# Altium footprint library QFN.PcbLib: 10 footprints
Each footprint in its own frame and in the unit in brackets; x right, y up, seen from the top. Pads: shape width x height; smd on the part's side, far side on the other; paste and mask are expansions set on the pad; w line width, h text height; cw(c..) or ccw(c..) is an arc to the next point about the centre after c.
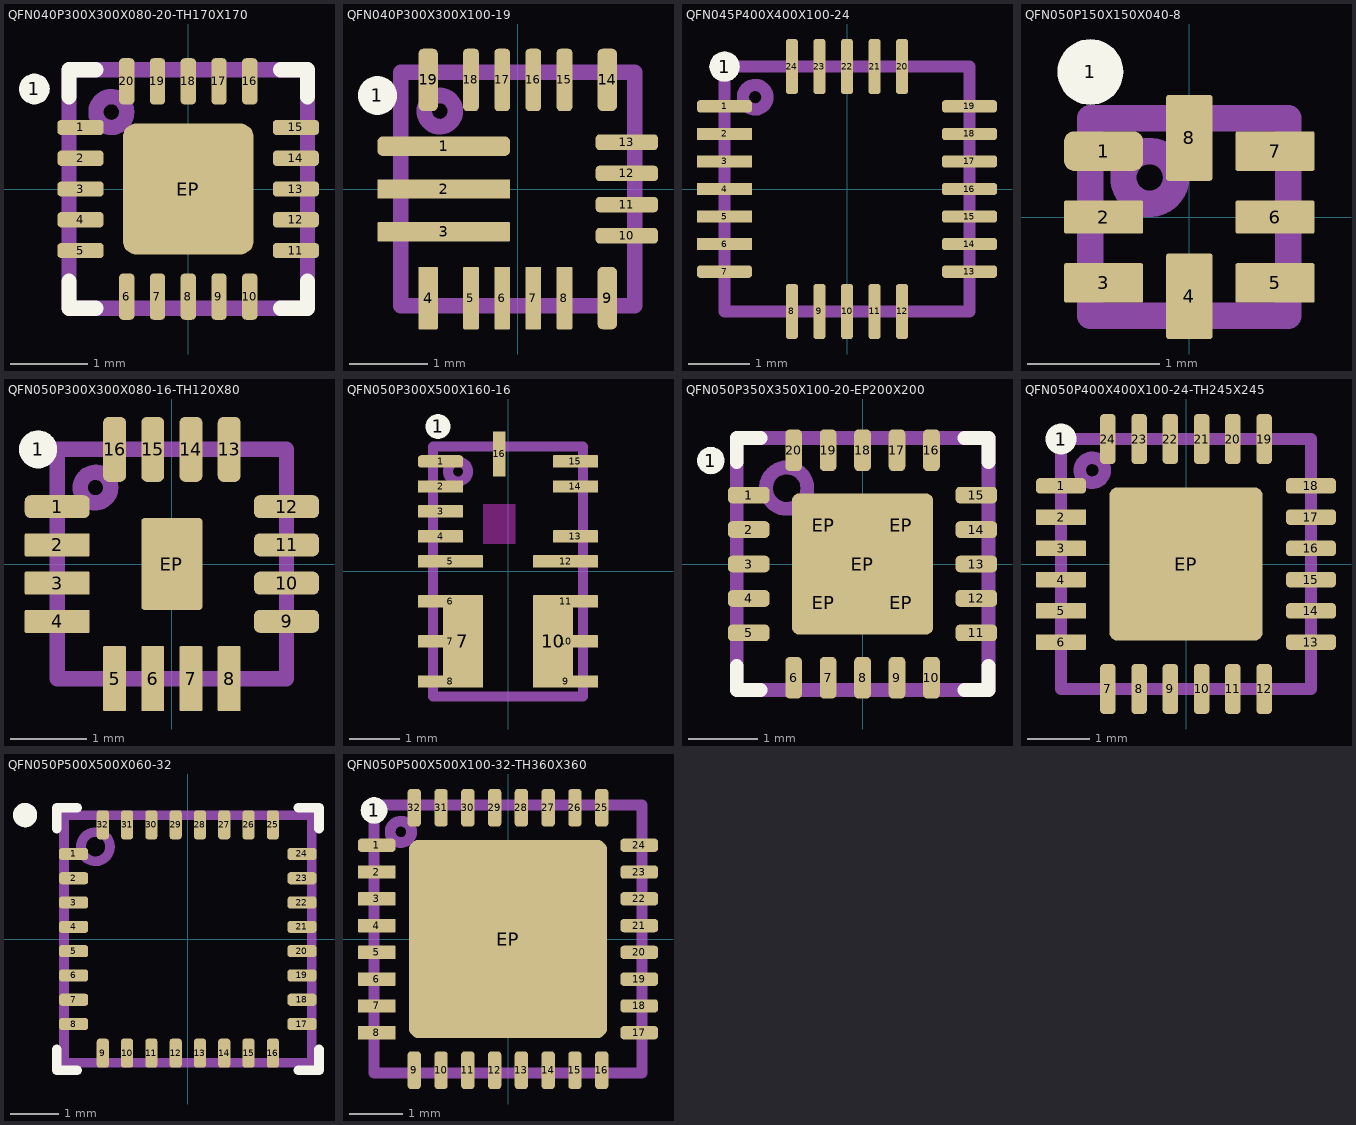
[diagram p0: the footprints below, top view; thin cyan lines are the x and y axes]

## QFN040P300X300X080-20-TH170X170 [mm]
pads (22):
  round 0.4 on Top Overlay: 1(-2,1.3)
  rrect50% 0.6x0.2 smd: 1(-1.4,0.8) 2(-1.4,0.4) 3(-1.4,0) 4(-1.4,-0.4) 5(-1.4,-0.8) 11(1.4,-0.8) 12(1.4,-0.4) 13(1.4,0) 14(1.4,0.4) 15(1.4,0.8)
  rrect50% 0.2x0.6 smd: 6(-0.8,-1.4) 7(-0.4,-1.4) 8(0,-1.4) 9(0.4,-1.4) 10(0.8,-1.4) 16(0.8,1.4) 17(0.4,1.4) 18(0,1.4) 19(-0.4,1.4) 20(-0.8,1.4)
  rrect20% 1.7x1.7 smd: EP(0,0)
Top Overlay:
  lines w0.2: -1.55,-1.2 -1.55,-1.55 -1.2,-1.55 ; -1.55,1.2 -1.55,1.55 -1.2,1.55 ; 1.2,-1.55 1.55,-1.55 1.55,-1.2 ; 1.2,1.55 1.55,1.55 1.55,1.2
Top Assembly:
  circle w0.2: c-1,1 r0.2
  lines w0.2: -1.55,-1.55 1.55,-1.55 1.55,1.55 -1.55,1.55 -1.55,-1.55
3D body: height 0.8, standoff 0.05, extent -1.55,-1.55 1.55,1.55
3D body: height 0.2, standoff 0, extent -0.85,-0.85 0.85,0.85
3D body: height 0.2, standoff 0, extent -1.551,-0.1 -1.051,0.1
3D body: height 0.2, standoff 0, extent -1.551,0.3 -1.051,0.5
3D body: height 0.2, standoff 0, extent -1.551,0.7 -1.051,0.9
3D body: height 0.2, standoff 0, extent -1.551,-0.5 -1.051,-0.3
3D body: height 0.2, standoff 0, extent -1.551,-0.9 -1.051,-0.7
3D body: height 0.2, standoff 0, extent -0.9,-1.551 -0.7,-1.051
3D body: height 0.2, standoff 0, extent -0.5,-1.551 -0.3,-1.051
3D body: height 0.2, standoff 0, extent -0.1,-1.551 0.1,-1.051
3D body: height 0.2, standoff 0, extent 0.3,-1.551 0.5,-1.051
3D body: height 0.2, standoff 0, extent 0.7,-1.551 0.9,-1.051
3D body: height 0.2, standoff 0, extent 1.051,-0.9 1.551,-0.7
3D body: height 0.2, standoff 0, extent 1.051,-0.5 1.551,-0.3
3D body: height 0.2, standoff 0, extent 1.051,-0.1 1.551,0.1
3D body: height 0.2, standoff 0, extent 1.051,0.3 1.551,0.5
3D body: height 0.2, standoff 0, extent 1.051,0.7 1.551,0.9
3D body: height 0.2, standoff 0, extent 0.7,1.051 0.9,1.551
3D body: height 0.2, standoff 0, extent 0.3,1.051 0.5,1.551
3D body: height 0.2, standoff 0, extent -0.1,1.051 0.1,1.551
3D body: height 0.2, standoff 0, extent -0.5,1.051 -0.3,1.551
3D body: height 0.2, standoff 0, extent -0.9,1.051 -0.7,1.551
3D body: height 0.81, standoff 0.8, extent -1.288,0.705 -0.688,1.305

## QFN040P300X300X100-19 [mm] "MP2659"
pads (20):
  round 0.5 on Top Overlay: 1(-1.8,1.2)
  rrect50% 1.7x0.25 smd mask+0.038: 1(-0.95,0.55)
  rrect10% 1.7x0.25 smd mask+0.038: 2(-0.95,0) 3(-0.95,-0.55)
  rrect10% 0.25x0.8 smd mask+0.038: 4(-1.15,-1.4)
  rrect10% 0.2x0.8 smd mask+0.038: 5(-0.6,-1.4) 6(-0.2,-1.4) 7(0.2,-1.4) 8(0.6,-1.4)
  rrect50% 0.25x0.8 smd mask+0.038: 9(1.15,-1.4) 14(1.15,1.4) 19(-1.15,1.4)
  rrect50% 0.8x0.2 smd mask+0.038: 10(1.4,-0.6) 11(1.4,-0.2) 12(1.4,0.2) 13(1.4,0.6)
  rrect50% 0.2x0.8 smd mask+0.038: 15(0.6,1.4) 16(0.2,1.4) 17(-0.2,1.4) 18(-0.6,1.4)
Top Assembly:
  circle w0.2: c-1,1 r0.2
  lines w0.2: -1.5,-1.5 -1.5,1.5 1.5,1.5 1.5,-1.5 -1.5,-1.5
3D body "QFN040P300X300X100-19.stp": height 1.01, standoff 0, extent -1.51,-1.51 1.51,1.51

## QFN045P400X400X100-24 [mm]
pads (25):
  rrect50% 0.9x0.2 smd mask+0: 1(-2,1.35) 7(-2,-1.35) 13(2,-1.35) 14(2,-0.9) 15(2,-0.45) 16(2,0) 17(2,0.45) 18(2,0.9) 19(2,1.35)
  round 0.5 on Top Overlay: 1(-2,2)
  rrect10% 0.9x0.2 smd mask+0: 2(-2,0.9) 3(-2,0.45) 4(-2,0) 5(-2,-0.45) 6(-2,-0.9)
  rrect50% 0.2x0.9 smd mask+0: 8(-0.9,-2) 9(-0.45,-2) 10(0,-2) 11(0.45,-2) 12(0.9,-2) 20(0.9,2) 21(0.45,2) 22(0,2) 23(-0.45,2) 24(-0.9,2)
Top Assembly:
  circle w0.2: c-1.5,1.5 r0.2
  lines w0.2: -2,-2 2,-2 2,2 -2,2 -2,-2
3D body "QFN045P400X400X100-24.stp": height 1.01, standoff 0, extent -2.005,-2.005 2.005,2.005

## QFN050P150X150X040-8 [mm] "JEDEC MO-288 X2ECD TI Package RUG"
pads (9):
  round 0.5 on Top Overlay: 1(-0.75,1.1)
  rrect50% 0.6x0.3 smd mask+0.038: 1(-0.65,0.5)
  rrect10% 0.6x0.25 smd mask+0.038: 2(-0.65,0) 6(0.65,0)
  rrect10% 0.6x0.3 smd mask+0.038: 3(-0.65,-0.5) 5(0.65,-0.5) 7(0.65,0.5)
  rrect10% 0.35x0.65 smd mask+0.038: 4(0,-0.6) 8(0,0.6)
Top Assembly:
  circle w0.2: c-0.3,0.3 r0.2
  lines w0.2: -0.75,-0.75 -0.75,0.75 0.75,0.75 0.75,-0.75 -0.75,-0.75
3D body "QFN050P150X150X040-8-RUG.stp": height 0.41, standoff 0, extent -0.76,-0.76 0.76,0.76

## QFN050P300X300X080-16-TH120X80 [mm]
pads (18):
  round 0.5 on Top Overlay: 1(-1.75,1.5)
  rrect50% 0.85x0.3 smd mask+0.038: 1(-1.5,0.75) 9(1.5,-0.75) 10(1.5,-0.25) 11(1.5,0.25) 12(1.5,0.75)
  rrect10% 0.85x0.3 smd mask+0.038: 2(-1.5,0.25) 3(-1.5,-0.25) 4(-1.5,-0.75)
  rrect10% 0.3x0.85 smd mask+0.038: 5(-0.75,-1.5) 6(-0.25,-1.5) 7(0.25,-1.5) 8(0.75,-1.5)
  rrect50% 0.3x0.85 smd mask+0.038: 13(0.75,1.5) 14(0.25,1.5) 15(-0.25,1.5) 16(-0.75,1.5)
  rrect10% 0.8x1.2 smd mask+0.038: EP(0,0)
Top Assembly:
  circle w0.2: c-1,1 r0.2
  lines w0.2: -1.5,-1.5 1.5,-1.5 1.5,1.5 -1.5,1.5 -1.5,-1.5
3D body "QFN050P300X300X080-16-TH120X80.stp": height 0.81, standoff 0, extent -1.505,-1.505 1.505,1.505

## QFN050P300X500X160-16 [mm] "Recom RPX-1.0-R"
pads (19):
  round 0.5 on Top Overlay: 1(-1.4,2.9)
  rrect50% 0.9x0.25 smd mask+0.038: 1(-1.35,2.2)
  rrect10% 0.9x0.25 smd mask+0.038: 2(-1.35,1.7) 3(-1.35,1.2) 4(-1.35,0.7) 13(1.35,0.7) 14(1.35,1.7) 15(1.35,2.2)
  rrect10% 1.3x0.25 smd mask+0.038: 5(-1.15,0.2) 6(-1.15,-0.6) 7(-1.15,-1.4) 8(-1.15,-2.2) 9(1.15,-2.2) 10(1.15,-1.4) 11(1.15,-0.6) 12(1.15,0.2)
  rrect10% 0.8x1.85 smd mask+0.038: 7(-0.9,-1.4) 10(0.9,-1.4)
  rrect10% 0.25x0.9 smd mask+0.038: 16(-0.175,2.35)
Top Layer keep-out:
  rectangle: -0.5,0.55 0.15,1.35
Top Assembly:
  circle w0.2: c-1,2 r0.2
  lines w0.2: -1.5,-2.5 1.5,-2.5 1.5,2.5 -1.5,2.5 -1.5,-2.5
3D body "QFN050P300X500X160-16.stp": height 1.6, standoff 0, extent -1.505,-2.5 1.505,2.505

## QFN050P350X350X100-20-EP200X200 [mm]
pads (26):
  round 0.4 on Top Overlay: 1(-2.2,1.5)
  rrect50% 0.6x0.24 smd: 1(-1.65,1) 2(-1.65,0.5) 3(-1.65,0) 4(-1.65,-0.5) 5(-1.65,-1) 11(1.65,-1) 12(1.65,-0.5) 13(1.65,0) 14(1.65,0.5) 15(1.65,1)
  rrect50% 0.24x0.6 smd: 6(-1,-1.65) 7(-0.5,-1.65) 8(0,-1.65) 9(0.5,-1.65) 10(1,-1.65) 16(1,1.65) 17(0.5,1.65) 18(0,1.65) 19(-0.5,1.65) 20(-1,1.65)
  rrect20% 0.92x0.92 on Top Paste: EP(-0.56,-0.56) EP(-0.56,0.56) EP(0.56,-0.56) EP(0.56,0.56)
  rrect10% 2.05x2.05 smd paste-2539.97: EP(0,0)
Top Overlay:
  lines w0.2: -1.825,-1.475 -1.825,-1.825 -1.475,-1.825 ; -1.825,1.475 -1.825,1.825 -1.475,1.825 ; 1.475,-1.825 1.825,-1.825 1.825,-1.475 ; 1.475,1.825 1.825,1.825 1.825,1.475
Top Assembly:
  circle w0.2: c-1.1,1.1 r0.3
  lines w0.2: -1.825,-1.825 -1.825,1.825 1.825,1.825 1.825,-1.825 -1.825,-1.825
3D body: height 1, standoff 0.05, extent -1.825,-1.825 1.825,1.825
3D body: height 0.2, standoff 0, extent -1.826,-0.12 -1.326,0.12
3D body: height 0.2, standoff 0, extent -1.826,0.38 -1.326,0.62
3D body: height 0.2, standoff 0, extent -1.826,0.88 -1.326,1.12
3D body: height 0.2, standoff 0, extent -1.826,-0.62 -1.326,-0.38
3D body: height 0.2, standoff 0, extent -1.826,-1.12 -1.326,-0.88
3D body: height 0.2, standoff 0, extent -0.12,-1.826 0.12,-1.326
3D body: height 0.2, standoff 0, extent -0.62,-1.826 -0.38,-1.326
3D body: height 0.2, standoff 0, extent -1.12,-1.826 -0.88,-1.326
3D body: height 0.2, standoff 0, extent 0.38,-1.826 0.62,-1.326
3D body: height 0.2, standoff 0, extent 0.88,-1.826 1.12,-1.326
3D body: height 0.2, standoff 0, extent 1.326,-0.12 1.826,0.12
3D body: height 0.2, standoff 0, extent 1.326,-0.62 1.826,-0.38
3D body: height 0.2, standoff 0, extent 1.326,-1.12 1.826,-0.88
3D body: height 0.2, standoff 0, extent 1.326,0.38 1.826,0.62
3D body: height 0.2, standoff 0, extent 1.326,0.88 1.826,1.12
3D body: height 0.2, standoff 0, extent -0.12,1.326 0.12,1.826
3D body: height 0.2, standoff 0, extent 0.38,1.326 0.62,1.826
3D body: height 0.2, standoff 0, extent 0.88,1.326 1.12,1.826
3D body: height 0.2, standoff 0, extent -0.62,1.326 -0.38,1.826
3D body: height 0.2, standoff 0, extent -1.12,1.326 -0.88,1.826
3D body: height 0.2, standoff 0, extent -1.025,-1.025 1.025,1.025
3D body: height 1.01, standoff 1, extent -1.5,0.9 -0.9,1.5

## QFN050P400X400X100-24-TH245X245 [mm]
pads (26):
  rrect50% 0.8x0.25 smd mask+0.038: 1(-2,1.25) 13(2,-1.25) 14(2,-0.75) 15(2,-0.25) 16(2,0.25) 17(2,0.75) 18(2,1.25)
  round 0.5 on Top Overlay: 1(-2,2)
  rrect10% 0.8x0.25 smd mask+0.038: 2(-2,0.75) 3(-2,0.25) 4(-2,-0.25) 5(-2,-0.75) 6(-2,-1.25)
  rrect50% 0.25x0.8 smd mask+0.038: 7(-1.25,-2) 8(-0.75,-2) 9(-0.25,-2) 10(0.25,-2) 11(0.75,-2) 12(1.25,-2) 19(1.25,2) 20(0.75,2) 21(0.25,2) 22(-0.25,2) 23(-0.75,2) 24(-1.25,2)
  rrect10% 2.45x2.45 smd mask+0.038: EP(0,0)
Top Assembly:
  circle w0.2: c-1.5,1.5 r0.2
  lines w0.2: -2,-2 -2,2 2,2 2,-2 -2,-2
3D body "QFN050P400X400X100-24-TH245X245.stp": height 0.81, standoff 0, extent -2.01,-2.01 2.01,2.01

## QFN050P500X500X060-32 [mm] "QFN, 32-Leads, Body 5.00x5.00mm, Pitch 0.50mm, IPC Medium Density"
height 0.6
pads (32):
  rrect50% 0.6x0.25 smd: 1(-2.35,1.75) 2(-2.35,1.25) 3(-2.35,0.75) 4(-2.35,0.25) 5(-2.35,-0.25) 6(-2.35,-0.75) 7(-2.35,-1.25) 8(-2.35,-1.75) 17(2.35,-1.75) 18(2.35,-1.25) 19(2.35,-0.75) 20(2.35,-0.25) 21(2.35,0.25) 22(2.35,0.75) 23(2.35,1.25) 24(2.35,1.75)
  rrect50% 0.25x0.6 smd: 9(-1.75,-2.35) 10(-1.25,-2.35) 11(-0.75,-2.35) 12(-0.25,-2.35) 13(0.25,-2.35) 14(0.75,-2.35) 15(1.25,-2.35) 16(1.75,-2.35) 25(1.75,2.35) 26(1.25,2.35) 27(0.75,2.35) 28(0.25,2.35) 29(-0.25,2.35) 30(-0.75,2.35) 31(-1.25,2.35) 32(-1.75,2.35)
Top Overlay:
  circle w0.25: c-3.35,2.55 r0.125
  lines w0.2: -2.7,-2.275 -2.7,-2.7 -2.275,-2.7 ; -2.7,2.275 -2.7,2.7 -2.275,2.7 ; 2.275,-2.7 2.7,-2.7 2.7,-2.275 ; 2.275,2.7 2.7,2.7 2.7,2.275
Top Assembly:
  circle w0.2: c-1.9,1.9 r0.3
  lines w0.2: -2.55,-2.55 -2.55,2.55 2.55,2.55 2.55,-2.55 -2.55,-2.55
3D body: height 0.15, standoff 0, extent -1.875,2.31 -1.625,2.56
3D body: height 0.15, standoff 0, extent -1.375,2.31 -1.125,2.56
3D body: height 0.15, standoff 0, extent -0.875,2.31 -0.625,2.56
3D body: height 0.15, standoff 0, extent -0.375,2.31 -0.125,2.56
3D body: height 0.15, standoff 0, extent 0.125,2.31 0.375,2.56
3D body: height 0.15, standoff 0, extent 0.625,2.31 0.875,2.56
3D body: height 0.15, standoff 0, extent 1.125,2.31 1.375,2.56
3D body: height 0.15, standoff 0, extent 1.625,2.31 1.875,2.56
3D body: height 0.15, standoff 0, extent 2.31,1.625 2.56,1.875
3D body: height 0.15, standoff 0, extent 2.31,1.125 2.56,1.375
3D body: height 0.15, standoff 0, extent 2.31,0.625 2.56,0.875
3D body: height 0.15, standoff 0, extent 2.31,0.125 2.56,0.375
3D body: height 0.15, standoff 0, extent 2.31,-0.375 2.56,-0.125
3D body: height 0.15, standoff 0, extent 2.31,-0.875 2.56,-0.625
3D body: height 0.15, standoff 0, extent 2.31,-1.375 2.56,-1.125
3D body: height 0.15, standoff 0, extent 2.31,-1.875 2.56,-1.625
3D body: height 0.15, standoff 0, extent 1.625,-2.56 1.875,-2.31
3D body: height 0.15, standoff 0, extent 1.125,-2.56 1.375,-2.31
3D body: height 0.15, standoff 0, extent 0.625,-2.56 0.875,-2.31
3D body: height 0.15, standoff 0, extent 0.125,-2.56 0.375,-2.31
3D body: height 0.15, standoff 0, extent -0.375,-2.56 -0.125,-2.31
3D body: height 0.15, standoff 0, extent -0.875,-2.56 -0.625,-2.31
3D body: height 0.15, standoff 0, extent -1.375,-2.56 -1.125,-2.31
3D body: height 0.15, standoff 0, extent -1.875,-2.56 -1.625,-2.31
3D body: height 0.15, standoff 0, extent -2.56,-1.875 -2.31,-1.625
3D body: height 0.15, standoff 0, extent -2.56,-1.375 -2.31,-1.125
3D body: height 0.15, standoff 0, extent -2.56,-0.875 -2.31,-0.625
3D body: height 0.15, standoff 0, extent -2.56,-0.375 -2.31,-0.125
3D body: height 0.15, standoff 0, extent -2.56,0.125 -2.31,0.375
3D body: height 0.15, standoff 0, extent -2.56,0.625 -2.31,0.875
3D body: height 0.15, standoff 0, extent -2.56,1.125 -2.31,1.375
3D body: height 0.15, standoff 0, extent -2.56,1.625 -2.31,1.875
3D body: height 0.6, standoff 0.02, extent -2.55,-2.55 2.55,2.55
3D body: height 0.7, standoff 0.6, extent -2.009,1.368 -1.409,1.968

## QFN050P500X500X100-32-TH360X360 [mm]
pads (34):
  round 0.5 on Top Overlay: 1(-2.5,2.4)
  rrect50% 0.7x0.25 smd mask+0.038: 1(-2.45,1.75) 17(2.45,-1.75) 18(2.45,-1.25) 19(2.45,-0.75) 20(2.45,-0.25) 21(2.45,0.25) 22(2.45,0.75) 23(2.45,1.25) 24(2.45,1.75)
  rrect10% 0.7x0.25 smd mask+0.038: 2(-2.45,1.25) 3(-2.45,0.75) 4(-2.45,0.25) 5(-2.45,-0.25) 6(-2.45,-0.75) 7(-2.45,-1.25) 8(-2.45,-1.75)
  rrect50% 0.25x0.7 smd mask+0.038: 9(-1.75,-2.45) 10(-1.25,-2.45) 11(-0.75,-2.45) 12(-0.25,-2.45) 13(0.25,-2.45) 14(0.75,-2.45) 15(1.25,-2.45) 16(1.75,-2.45) 25(1.75,2.45) 26(1.25,2.45) 27(0.75,2.45) 28(0.25,2.45) 29(-0.25,2.45) 30(-0.75,2.45) 31(-1.25,2.45) 32(-1.75,2.45)
  rrect10% 3.7x3.7 smd mask+0.038: EP(0,0)
Top Assembly:
  circle w0.2: c-2,2 r0.2
  lines w0.2: -2.5,-2.5 2.5,-2.5 2.5,2.5 -2.5,2.5 -2.5,-2.5
3D body "QFN050P500X500X100-32-TH360X360.stp": height 1.01, standoff 0, extent -2.505,-2.505 2.505,2.505